# Altium schematic symbol library BFCN-5100+.SchLib: 1 symbol
Pins are listed as number, name and electrical type; pins without a type are passive.

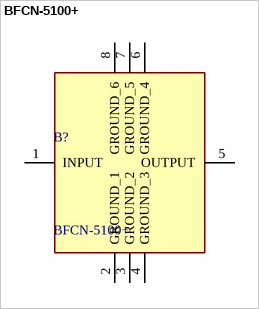
[diagram p0: symbol BFCN-5100+]

## BFCN-5100+
designator B?
5.1GHz Center Band Pass Ceramic Filter 4 GHz 50Ohm 8-SMD Module; Manufacturer_Name: Mini-Circuits; Geometry.Height: 1.042mm; Mouser Part Number: 139-BFCN-5100; Mouser Price/Stock: https://www.mouser.co.uk/ProductDetail/Mini-Circuits/BFCN-5100%2b?qs=xZ%2FP%252Ba9zWqYgAa562jLAEw%3D%3D; Manufacturer_Part_Number: BFCN-5100+; Datasheet Link: https://www.minicircuits.com/WebStore/dashboard.html?model=BFCN-5100%2B
footprint BFCN5100
pins: 1 INPUT, 2 GROUND_1, 3 GROUND_2, 4 GROUND_3, 5 OUTPUT, 6 GROUND_4, 7 GROUND_5, 8 GROUND_6